# EAGLE library part ENC28J60 (library Jim)
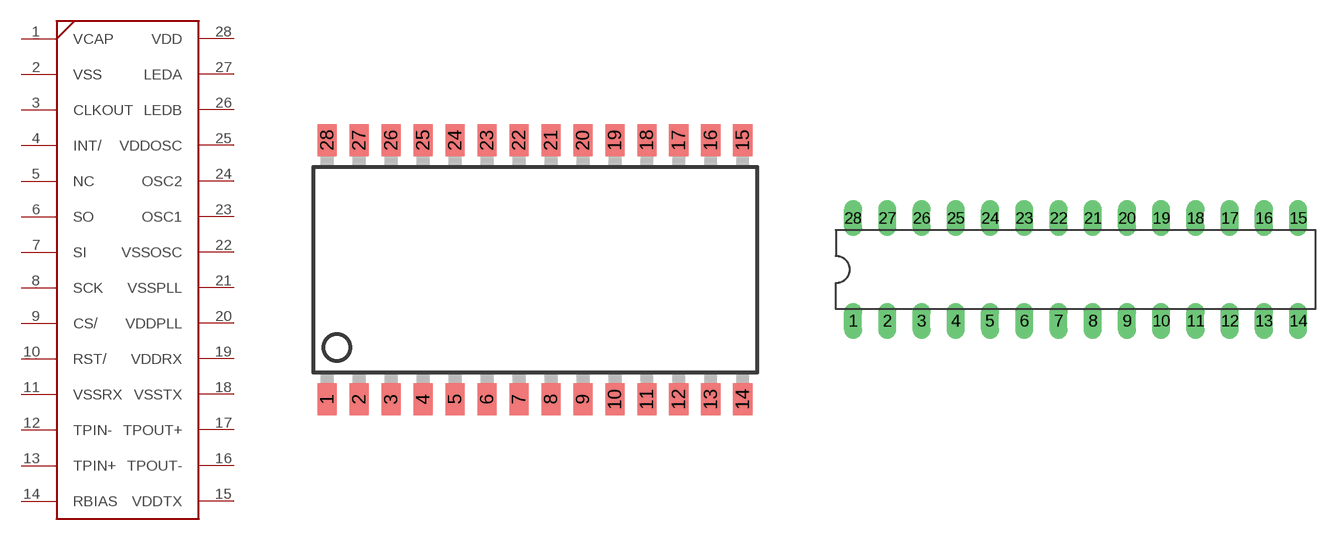
[diagram p21: symbol with the pads of SO28L; footprints SO28L, DIP28-3]

Designator prefix -

## ENC28J60SOIC-28  [SO28L]
1  VCAP  pas
2  VSS  pwr
3  CLKOUT  out
4  INT/  out
5  NC  nc
6  SO  out
7  SI  in
8  SCK  in
9  CS/  in
10  RST/  in
11  VSSRX  pwr
12  TPIN-  in
13  TPIN+  in
14  RBIAS  pas
15  VDDTX  pwr
16  TPOUT-  out
17  TPOUT+  out
18  VSSTX  pwr
19  VDDRX  pwr
20  VDDPLL  pwr
21  VSSPLL  pwr
22  VSSOSC  pwr
23  OSC1  pas
24  OSC2  pas
25  VDDOSC  pwr
26  LEDB  out
27  LEDA  out
28  VDD  pwr

## ENC28J60DIPWITHHOLES  [DIP28-3]
Pads as for SO28L

## Footprint SO28L (pad centres in mm)
Small Outline large
smd 0.762 x 1.27: 1 -7.62,-5.207; 2 -6.35,-5.207; 3 -5.08,-5.207; 4 -3.81,-5.207; 5 -2.54,-5.207; 6 -1.27,-5.207; 7 0,-5.207; 8 1.27,-5.207; 9 2.54,-5.207; 10 3.81,-5.207; 11 5.08,-5.207; 12 6.35,-5.207; 13 7.62,-5.207; 14 8.89,-5.207; 15 8.89,5.08; 16 7.62,5.08; 17 6.35,5.08; 18 5.08,5.08; 19 3.81,5.08; 20 2.54,5.08; 21 1.27,5.08; 22 0,5.08; 23 -1.27,5.08; 24 -2.54,5.08; 25 -3.81,5.08; 26 -5.08,5.08; 27 -6.35,5.08; 28 -7.62,5.08

## Footprint DIP28-3 (pad centres in mm)
drill 0.813 long: 1 -16.51,-3.81; 2 -13.97,-3.81; 3 -11.43,-3.81; 4 -8.89,-3.81; 5 -6.35,-3.81; 6 -3.81,-3.81; 7 -1.27,-3.81; 8 1.27,-3.81; 9 3.81,-3.81; 10 6.35,-3.81; 11 8.89,-3.81; 12 11.43,-3.81; 13 13.97,-3.81; 14 16.51,-3.81; 15 16.51,3.81; 16 13.97,3.81; 17 11.43,3.81; 18 8.89,3.81; 19 6.35,3.81; 20 3.81,3.81; 21 1.27,3.81; 22 -1.27,3.81; 23 -3.81,3.81; 24 -6.35,3.81; 25 -8.89,3.81; 26 -11.43,3.81; 27 -13.97,3.81; 28 -16.51,3.81